# Altium schematic symbol library Schlib1.SchLib: 20 symbols
Pins are listed as number, name and electrical type; pins without a type are passive.

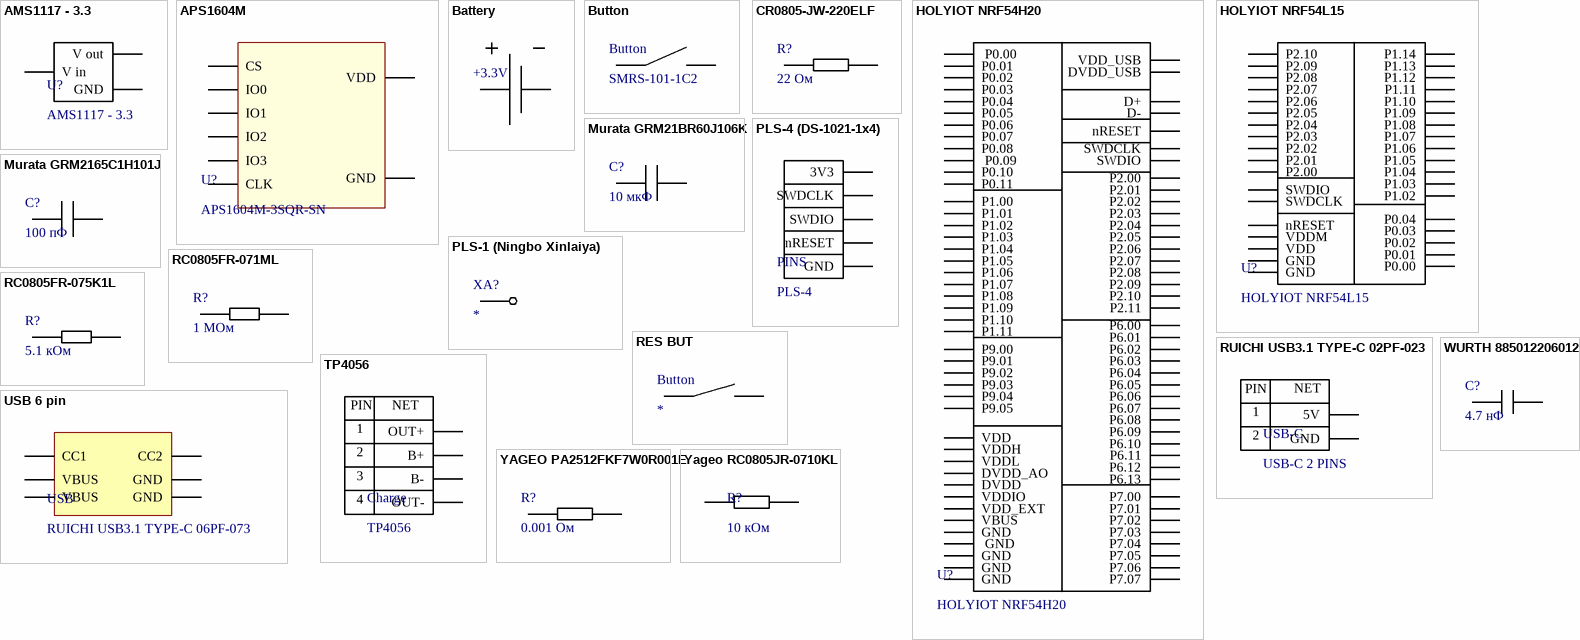
[diagram p0: symbols AMS1117 - 3.3 to Yageo RC0805JR-0710KL]

## AMS1117 - 3.3
designator U?
footprint AMS 1117 - 3.3 (SOT223, 4-Leads, Body 6,50x7,00mm (avg), Pitch 2,30mm, IPC Medium Density)
pins: 1 GND, 2 V out, 3 V in

## APS1604M
designator U?, comment APS1604M-3SQR-SN
footprint APS1604M (SOP-8) (TSOP, 8-Leads, Body 4,90x3,90mm, Pitch 1,27mm, IPC Medium Density)
pins: 1 CS, 2 IO1, 3 IO2, 4 GND, 5 IO0, 6 CLK, 7 IO3, 8 VDD

## Battery
designator +3.3V  (value not drawn)
footprint Battery connect
pins: 1 48, 2 47

## Button
designator Button, comment SMRS-101-1C2
footprint Button (SMRS-101-1C2)
pins: 1 49, 2

## CR0805-JW-220ELF
designator R?, comment 22 Ом
footprint CR0805-JW-220ELF
pins: 1 7, 2

## HOLYIOT NRF54H20
designator U?
footprint HOLYIOT NRF54H20
pins: 1 GND, 2 VDDH, 3 VDD, 4  GND, 5 DVDD, 6 DVDD_AO, 7 P6.13, 8 P6.12, 9 P6.11, 10 P6.10, 11 P6.09, 12 P6.08, 13 P6.07, 14 P6.06, 15 P6.00, 16 P6.01, 17 P6.02, 18 P6.03, 19 P6.04, 20 P6.05, 21 P2.00, 22 P2.01, 23 P2.02, 24 P2.03, 25 P2.04, 26 P2.11, 27 P2.10, 28 GND, 29 GND, 30 P2.09, 31 P2.08, 32 P2.07, 33 P2.06, 34 P2.05, 35 P7.07, 36 P7.06, 37 P7.05, 38 P7.04, 39 P7.03, 40 P7.02, 41 P7.01, 42 P7.00, 43  P0.09, 44 P0.08, 45 P0.05, 46 P0.06, 47 P0.07, 48 P9.00, 49 P9.01, 50  P0.00, 51 P0.04, 52 P1.04, 53 P1.03, 54 P1.02, 55 VDDL, 56 P1.01, 57 P1.00, 58 GND, 59 P1.06, 60 P1.07, 61 P1.09, 62 P9.05, 63 P9.04, 64 P9.03, 65 P9.02, 66 P0.03, 67 P0.02, 68 P0.01, 69 P0.10, 70 P0.11, 71 VDDIO, 72 nRESET, 73 SWDIO, 74 SWDCLK, 75 VDD_EXT, 76 DVDD_USB, 77 VBUS, 78 D-, 79 D+, 80 VDD_USB, 81 P1.10, 82 P1.11, 83 P1.08, 84 P1.05

## HOLYIOT NRF54L15
designator U?
footprint HOLYIOT NRF54L15
pins: 1 GND, 2 P1.09, 3 P1.10, 4 VDD, 5 P1.11, 6 P1.12, 7 P1.13, 8 P1.14, 9 VDDM, 10 P1.02, 11 P1.03, 12 P1.04, 13 P1.05, 14 P1.06, 15 P1.07, 16 P1.08, 17 P2.00, 18 P2.01, 19 P2.02, 20 P2.03, 21 P2.04, 22 P2.05, 23 P2.06, 24 P2.07, 25 P2.08, 26 P2.09, 27 P2.10, 28 P0.00, 29 P0.01, 30 SWDCLK, 31 SWDIO, 32 P0.02, 33 P0.03, 34 P0.04, 35 nRESET, 36 GND

## Murata GRM21BR60J106K
designator C?, comment 10 мкФ
Murata GRM21BR60J106K
footprint Murata GRM21BR60J106K
pins: 1  , 2

## Murata GRM2165C1H101J
designator C?, comment 100 пФ
Murata GRM2165C1H101J
footprint Murata GRM2165C1H101J
pins: 1  , 2 27

## PLS-1 (Ningbo Xinlaiya)
designator XA?
footprint PLS-1
pins: 1 5

## PLS-4 (DS-1021-1x4)
designator PINS, comment PLS-4
footprint PLS-4 (DS-1021-1x4)
pins: 1 3V3, 2 SWDCLK, 3 SWDIO, 4 nRESET, 5 GND

## RC0805FR-071ML
designator R?, comment 1 МОм
footprint RC0805FR-071ML
pins: 1 3, 2

## RC0805FR-075K1L
designator R?, comment 5.1 кОм
footprint RC0805FR-075K1L
pins: 1 3, 2

## RES BUT
designator Button
footprint RES BUT
pins: 1 8, 2 6

## RUICHI USB3.1 TYPE-C 02PF-023
designator USB-C, comment USB-C 2 PINS
footprint RUICHI USB3.1 TYPE-C 02PF-023
pins: 1 5V, 2 GND
text: PIN; NET

## TP4056
designator Charge
footprint TP4056
pins: 1 OUT+, 2 B+, 3 B-, 4 OUT-
text: PIN; NET

## USB 6 pin
designator USB, comment RUICHI USB3.1 TYPE-C 06PF-073
footprint RUICHI USB3.1 TYPE-C 06PF-073
pins: 1 GND, 2 VBUS, 3 CC1, 4 CC2, 5 VBUS, 6 GND

## WURTH 885012206012
designator C?, comment 4.7 нФ
footprint WURTH 885012206012 (Chip Capacitor, 2-Leads, Body 1,60x0,80mm, IPC Medium Density)
pins: 1 3, 2

## YAGEO PA2512FKF7W0R001E
designator R?, comment 0.001 Ом
footprint Resistor 0.001
pins: 1 6, 2 7

## Yageo RC0805JR-0710KL
designator R?, comment 10 кОм
footprint Yageo RC0805JR-0710KL
pins: 1 34, 2 33